# EAGLE library part SMD-RECEIVER/TRANSMITTER-MODULE-HM-TRP-433S(9P-20X16X2MM) (library Seeed-OPL-Moudle)
317070000
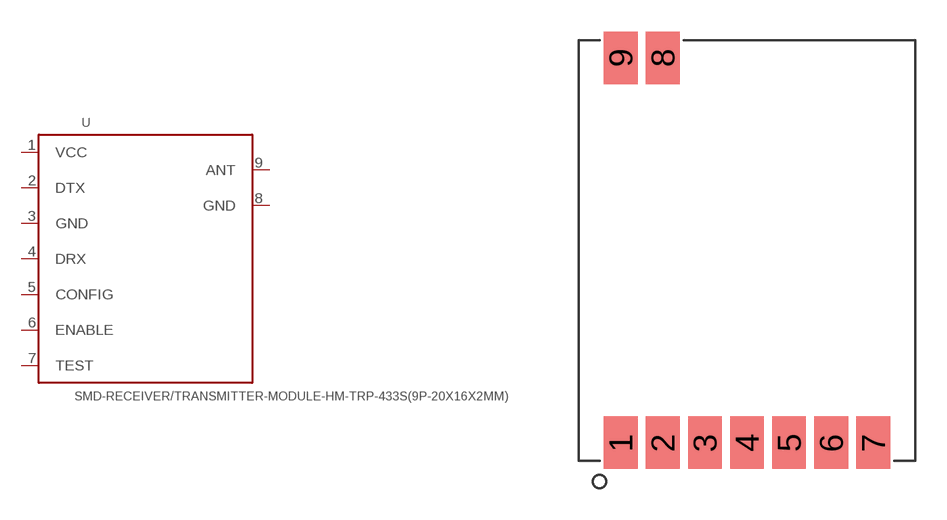
[diagram p13: symbol with the pads of LGA9-2.0-20X16X2MM; footprint LGA9-2.0-20X16X2MM]

Designator prefix U

## SMD-RECEIVER/TRANSMITTER-MODULE-HM-TRP-433S(9P-20X16X2MM) (MPN: HM-TRP-433S; VALUE: HM-TRP-433S)  [LGA9-2.0-20X16X2MM]
1  VCC  pwr
2  DTX
3  GND  sup
4  DRX
5  CONFIG
6  ENABLE
7  TEST
8  GND
9  ANT

## Footprint LGA9-2.0-20X16X2MM (pad centres in mm)
smd 1.6 x 2.5: 1 -6,-9.15; 2 -4,-9.15; 3 -2,-9.15; 4 0,-9.15; 5 2,-9.15; 6 4,-9.15; 7 6,-9.15; 8 -4,9.15; 9 -6,9.15